# EAGLE library part ETHERNET_SHIELD (library ali_modules)
Arduino ethernet shield
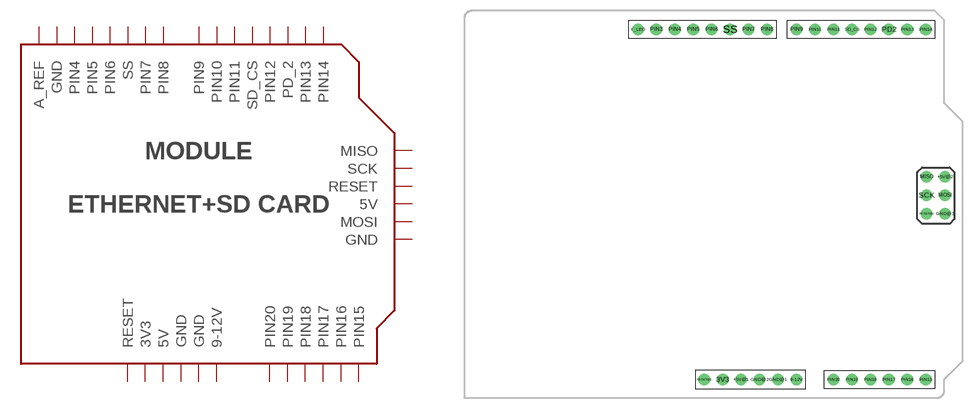
[diagram p8: symbol with the pads of ETHERNET_SHIELD; footprint ETHERNET_SHIELD]

Designator prefix MODULE

## ETHERNET_SHIELD  [ETHERNET_SHIELD]
3V3  3V3
9-12V  9-12V
+5V@1  5V
+5V@2  5V
GND@1  GND
GND@2  GND
GND@3  GND
MISO  MISO
MOSI  MOSI
PD2  PD_2
PIN3  GND
PIN4  PIN4
PIN5  PIN5
PIN6  PIN6
PIN7  PIN7
PIN8  PIN8
PIN9  PIN9
PIN10  PIN10
PIN11  PIN11
PIN12  PIN12
PIN13  PIN13
PIN14  PIN14
PIN15  PIN15
PIN16  PIN16
PIN17  PIN17
PIN18  PIN18
PIN19  PIN19
PIN20  PIN20
RESET@1  RESET
RESET@2  RESET
SCK  SCK
SD_CS  SD_CS
SS  SS
Y_LED  A_REF

## Footprint ETHERNET_SHIELD (pad centres in mm)
drill 1 pad 1.6: 3V3 1.27,-24.13; 9-12V 11.43,-24.13; +5V@1 3.81,-24.13; +5V@2 31.877,3.81; GND@1 8.89,-24.13; GND@2 6.35,-24.13; GND@3 31.877,-1.27; MISO 29.337,3.81; MOSI 31.877,1.27; PD2 24.13,24.13; PIN3 -7.874,24.13; PIN4 -5.334,24.13; PIN5 -2.794,24.13; PIN6 -0.254,24.13; PIN7 4.826,24.13; PIN8 7.366,24.13; PIN9 11.43,24.13; PIN10 13.97,24.13; PIN11 16.51,24.13; PIN12 21.59,24.13; PIN13 26.67,24.13; PIN14 29.21,24.13; PIN15 29.21,-24.13; PIN16 26.67,-24.13; PIN17 24.13,-24.13; PIN18 21.59,-24.13; PIN19 19.05,-24.13; PIN20 16.51,-24.13; RESET@1 29.337,-1.27; RESET@2 -1.27,-24.13; SCK 29.337,1.27; SD_CS 19.05,24.13; SS 2.286,24.13; Y_LED -10.414,24.13